# Altium footprint library AMRM00101040100MA1.PcbLib: 3 footprints
Each footprint in its own frame and in the unit in brackets; x right, y up, seen from the top. Pads: shape width x height; smd on the part's side, far side on the other; paste and mask are expansions set on the pad; w line width, h text height; cw(c..) or ccw(c..) is an arc to the next point about the centre after c.
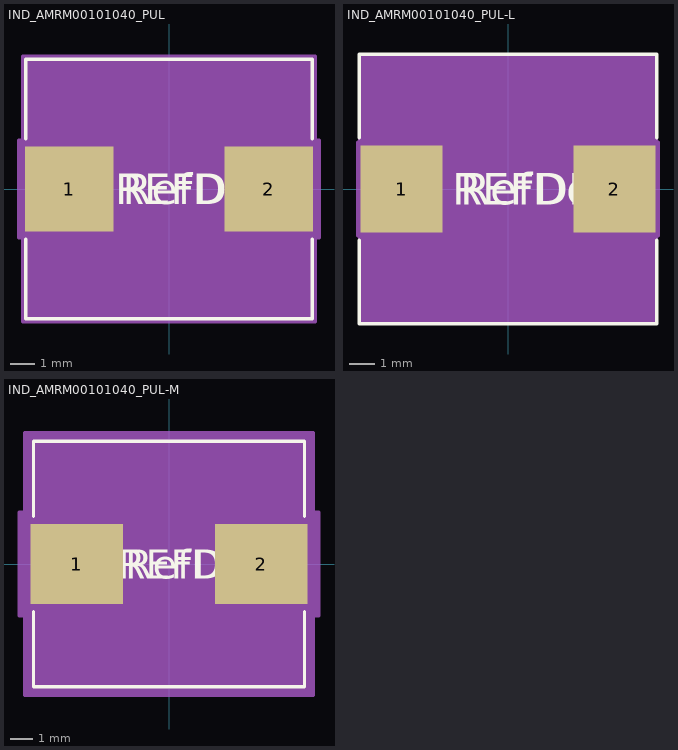
[diagram p0: the footprints below, top view; thin cyan lines are the x and y axes]

## IND_AMRM00101040_PUL [mil]
pads (2):
  rect 144x138 smd paste+0 mask+0: 1(-162.5,0) 2(162.5,0)
Top Overlay:
  lines w6: -233.5,-82.1 -233.5,-211.5 233.5,-211.5 233.5,-82.1 ; -233.5,82.1 -233.5,211.5 233.5,211.5 233.5,82.1
  text "RefDes" at -75,-25 h50
  text "REFDES" at -87.5,-25 h50
Mechanical 13:
  lines w1: -228.5,-103.25 -125.25,-206.5 ; -228.5,103.25 -125.25,206.5 ; -228.5,-206.5 228.5,-206.5 228.5,206.5 -228.5,206.5 -228.5,-206.5
  text "RefDes2" at -87.5,-25 h50
Mechanical 15:
  region: -238.5,-79 -244.5,-79 -244.5,79 -238.5,79 -238.5,216.5 238.5,216.5 238.5,79 244.5,79 244.5,-79 238.5,-79 238.5,-216.5 -238.5,-216.5
  region: 228.5,-206.5 -228.5,-206.5 -228.5,206.5 228.5,206.5
  lines w6: -244.5,-79 -244.5,79 -238.5,79 -238.5,216.5 238.5,216.5 238.5,79 244.5,79 244.5,-79 238.5,-79 238.5,-216.5 -238.5,-216.5 -238.5,-79 -244.5,-79
3D body "IND_AMRM00101040_PUL.step": height 157.01, standoff 0, extent -228.5,-206.5 228.5,206.5

## IND_AMRM00101040_PUL-L [mil]
pads (2):
  rect 129x136 smd paste+0 mask+0: 1(-167,0) 2(167,0)
Top Overlay:
  lines w6: -233.5,-80.95 -233.5,-211.5 233.5,-211.5 233.5,-80.95 ; -233.5,80.95 -233.5,211.5 233.5,211.5 233.5,80.95
  text "RefDes" at -75,-25 h50
  text "REFDES" at -87.5,-25 h50
Mechanical 13:
  lines w1: -228.5,-103.25 -125.25,-206.5 ; -228.5,103.25 -125.25,206.5 ; -228.5,-206.5 228.5,-206.5 228.5,206.5 -228.5,206.5 -228.5,-206.5
  text "RefDes2" at -87.5,-25 h50
Mechanical 15:
  region: -232.5,-73 -235.5,-73 -235.5,73 -232.5,73 -232.5,210.5 232.5,210.5 232.5,73 235.5,73 235.5,-73 232.5,-73 232.5,-210.5 -232.5,-210.5
  region: 228.5,-206.5 -228.5,-206.5 -228.5,206.5 228.5,206.5
  lines w6: -235.5,-73 -235.5,73 -232.5,73 -232.5,210.5 232.5,210.5 232.5,73 235.5,73 235.5,-73 232.5,-73 232.5,-210.5 -232.5,-210.5 -232.5,-73 -235.5,-73
3D body "IND_AMRM00101040_PUL.step": height 157.01, standoff 0, extent -228.5,-206.5 228.5,206.5

## IND_AMRM00101040_PUL-M [mil]
pads (2):
  rect 159x138 smd paste+0 mask+0: 1(-159,0) 2(159,0)
Top Overlay:
  lines w6: -233.5,-82.1 -233.5,-211.5 233.5,-211.5 233.5,-82.1 ; -233.5,82.1 -233.5,211.5 233.5,211.5 233.5,82.1
  text "RefDes" at -75,-25 h50
  text "REFDES" at -87.5,-25 h50
Mechanical 13:
  lines w1: -228.5,-103.25 -125.25,-206.5 ; -228.5,103.25 -125.25,206.5 ; -228.5,-206.5 228.5,-206.5 228.5,206.5 -228.5,206.5 -228.5,-206.5
  text "RefDes2" at -87.5,-25 h50
Mechanical 15:
  region: -248.5,-89 -258.5,-89 -258.5,89 -248.5,89 -248.5,226.5 248.5,226.5 248.5,89 258.5,89 258.5,-89 248.5,-89 248.5,-226.5 -248.5,-226.5
  region: 228.5,-206.5 -228.5,-206.5 -228.5,206.5 228.5,206.5
  lines w6: -258.5,-89 -258.5,89 -248.5,89 -248.5,226.5 248.5,226.5 248.5,89 258.5,89 258.5,-89 248.5,-89 248.5,-226.5 -248.5,-226.5 -248.5,-89 -258.5,-89
3D body "IND_AMRM00101040_PUL.step": height 157.01, standoff 0, extent -228.5,-206.5 228.5,206.5